# Altium schematic symbol library MCU_Module.SchLib: 52 symbols (part 3 of 3)
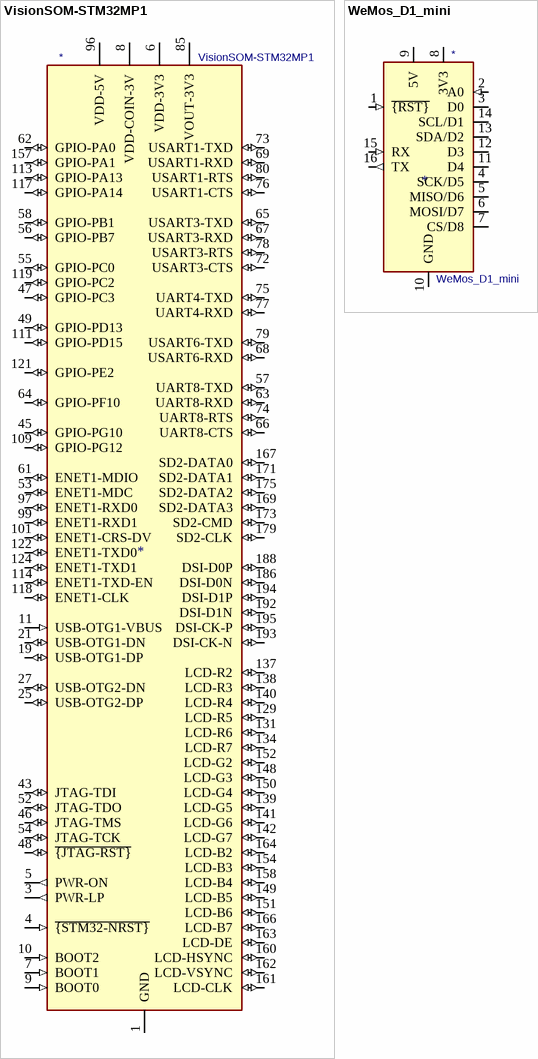
[diagram p11: symbols VisionSOM-STM32MP1 to WeMos_D1_mini]

## VisionSOM-STM32MP1
designator *  value VisionSOM-STM32MP1
ki_keywords: somlabs module; ki_description: STM32MP1 STMicroelectronics ARM Cortex-A7 800MHz single/dual core + ARM Cortex-M4 209MHz single core industrial SoM computer; ki_fp_filters: *SODIMM*; Supplier: https://wiki.somlabs.com/index.php/VisionSOM-STM32MP1_Datasheet_and_Pinout
pins: 1 GND (power), 2 GND hidden, 3 PWR-LP (out), 4 ~{{STM32-NRST}} (in), 5 PWR-ON (out), 6 VDD-3V3 (power), 7 BOOT1 (in), 8 VDD-COIN-3V (power), 9 BOOT0 (in), 10 BOOT2 (in), 11 USB-OTG1-VBUS (in), 12 NC (in) hidden, 13 NC (in) hidden, 14 NC (in) hidden, 15 GND hidden, 16 NC (in) hidden, 17 GND hidden, 18 NC (in) hidden, 19 USB-OTG1-DP (io), 20 GND hidden, 21 USB-OTG1-DN (io), 22 GND hidden, 23 GND hidden, 24 NC (in) hidden, 25 USB-OTG2-DP (io), 26 GND hidden, 27 USB-OTG2-DN (io), 28 GND hidden, 29 GND hidden, 30 NC (in) hidden, 31 NC (in) hidden, 32 NC (in) hidden, 33 NC (in) hidden, 34 NC (in) hidden, 35 GND hidden, 36 NC (in) hidden, 37 NC (in) hidden, 38 GND hidden, 39 NC (in) hidden, 40 GND hidden, 41 GND hidden, 42 NC (in) hidden, 43 JTAG-TDI (io), 44 NC (in) hidden, 45 GPIO-PG10 (io), 46 JTAG-TMS (io), 47 GPIO-PC3 (io), 48 ~{{JTAG-RST}} (io), 49 GPIO-PD13 (io), 50 GND hidden, 51 GND hidden, 52 JTAG-TDO (io), 53 ENET1-MDC (io), 54 JTAG-TCK (io), 55 GPIO-PC0 (io), 56 GPIO-PB7 (io), 57 UART8-TXD (io), 58 GPIO-PB1 (io), 59 GND hidden, 60 GND hidden, 61 ENET1-MDIO (io), 62 GPIO-PA0 (io), 63 UART8-RXD (io), 64 GPIO-PF10 (io), 65 USART3-TXD (io), 66 UART8-CTS (io), 67 USART3-RXD (io), 68 USART6-RXD (io), 69 USART1-RXD (io), 70 GND hidden, 71 GND hidden, 72 USART3-CTS (io), 73 USART1-TXD (io), 74 UART8-RTS (io), 75 UART4-TXD (io), 76 USART1-CTS (io), 77 UART4-RXD (io), 78 USART3-RTS (io), 79 USART6-TXD (io), 80 USART1-RTS (io), 81 GND hidden, 82 GND hidden, 83 NC (in) hidden, 84 GND hidden, 85 VOUT-3V3 (power), 86 NC (in) hidden, 87 VOUT-3V3 hidden, 88 VOUT-3V3 hidden, 89 VOUT-3V3 hidden, 90 VOUT-3V3 hidden, 91 VOUT-3V3 hidden, 92 VOUT-3V3 hidden, 93 VOUT-3V3 hidden, 94 NC (in) hidden, 95 NC (in) hidden, 96 VDD-5V (power), 97 ENET1-RXD0 (io), 98 VDD-5V hidden, 99 ENET1-RXD1 (io), 100 VDD-5V hidden, 101 ENET1-CRS-DV (io), 102 VDD-5V hidden, 103 GND hidden, 104 VDD-5V hidden, 105 NC (in) hidden, 106 VDD-5V hidden, 107 GND hidden, 108 VDD-5V hidden, 109 GPIO-PG12 (io), 110 VDD-5V hidden, 111 GPIO-PD15 (io), 112 VDD-5V hidden, 113 GPIO-PA13 (io), 114 ENET1-TXD-EN (io), 115 GND hidden, 116 GND hidden, 117 GPIO-PA14 (io), 118 ENET1-CLK (io), 119 GPIO-PC2 (io), 120 GND hidden, 121 GPIO-PE2 (io), 122 ENET1-TXD0 (io), 123 NC (in) hidden, 124 ENET1-TXD1 (io), 125 GND hidden, 126 NC (in) hidden, 127 GND hidden, 128 GND hidden, 129 LCD-R5 (io), 130 GND hidden, 131 LCD-R6 (io), 132 GND hidden, 133 GND hidden, 134 LCD-R7 (io), 135 GND hidden, 136 GND hidden, 137 LCD-R2 (io), 138 LCD-R3 (io), 139 LCD-G5 (io), 140 LCD-R4 (io), 141 LCD-G6 (io), 142 LCD-G7 (io), 143 GND hidden, 144 GND hidden, 145 GND hidden, 146 GND hidden, 147 GND hidden, 148 LCD-G3 (io), 149 LCD-B5 (io), 150 LCD-G4 (io), 151 LCD-B6 (io), 152 LCD-G2 (io), 153 GND hidden, 154 LCD-B3 (io), 155 GND hidden, 156 GND hidden, 157 GPIO-PA1 (io), 158 LCD-B4 (io), 159 GND hidden, 160 LCD-HSYNC (io), 161 LCD-CLK (io), 162 LCD-VSYNC (io), 163 LCD-DE (io), 164 LCD-B2 (io), 165 GND hidden, 166 LCD-B7 (io), 167 SD2-DATA0 (io), 168 GND hidden, 169 SD2-DATA3 (io), 170 GND hidden, 171 SD2-DATA1 (io), 172 GND hidden, 173 SD2-CMD (io), 174 GND hidden, 175 SD2-DATA2 (io), 176 GND hidden, 177 GND hidden, 178 GND hidden, 179 SD2-CLK (io), 180 GND hidden, 181 GND hidden, 182 GND hidden, 183 NC (in) hidden, 184 GND hidden, 185 GND hidden, 186 DSI-D0N (io), 187 NC (in) hidden, 188 DSI-D0P (io), 189 GND hidden, 190 NC (in) hidden, 191 NC (in) hidden, 192 DSI-D1N (io), 193 DSI-CK-N (io), 194 DSI-D1P (io), 195 DSI-CK-P (io), 196 NC (in) hidden, 197 NC (in) hidden, 198 NC (in) hidden, 199 GND hidden, 200 GND hidden

## WeMos_D1_mini
designator *  value WeMos_D1_mini
ki_keywords: ESP8266 WiFi microcontroller ESP8266EX; ki_description: 32-bit microcontroller module with WiFi; ki_fp_filters: WEMOS*D1*mini*; Footprint: Module:WEMOS_D1_mini_light; Supplier: https://wiki.wemos.cc/products:d1:d1_mini#documentation
footprint WEMOS_D1_mini_light
pins: 1 ~{{RST}} (in), 2 A0 (in), 3 D0 (io), 4 SCK/D5 (io), 5 MISO/D6 (io), 6 MOSI/D7 (io), 7 CS/D8 (io), 8 3V3 (power), 9 5V (power), 10 GND (power), 11 D4 (io), 12 D3 (io), 13 SDA/D2 (io), 14 SCL/D1 (io), 15 RX (in), 16 TX (out)